# Altium footprint library 653103131822.PcbLib: 1 footprints
Each footprint in its own frame and in the unit in brackets; x right, y up, seen from the top. Pads: shape width x height; smd on the part's side, far side on the other; paste and mask are expansions set on the pad; w line width, h text height; cw(c..) or ccw(c..) is an arc to the next point about the centre after c.
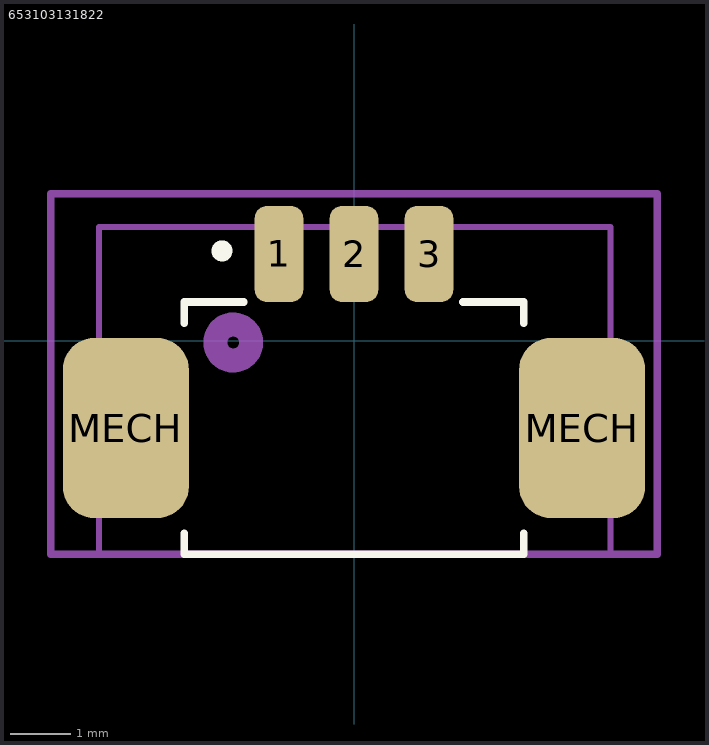
[diagram p0: the footprint, top view; thin cyan lines are the x and y axes]

## 653103131822 [mm] "SMT Male Horizontal Shrouded Header - 03p 1 row - T & R packaging"
height 3.4
pads (5):
  rrect50% 0.81x1.6 smd: 1(-1.25,1.45) 2(0,1.45) 3(1.25,1.45)
  rrect50% 2.1x3 smd: MECH(-3.8,-1.45) MECH(3.8,-1.45)
Top Overlay:
  circle w0.2: c-2.2,1.5 r0.075
  lines w0.127: -2.825,-3.2 -2.825,-3.55 2.825,-3.55 2.825,-3.2 ; -2.825,0.3 -2.825,0.65 -1.835,0.65 ; 1.815,0.65 2.035,0.65 ; 2.825,0.3 2.825,0.65 2.035,0.65 ; -1.835,0.65 -1.835,0.65 ; 2.035,0.65 2.035,0.65
Top Assembly:
  circle w0.4: c-2.012,-0.025 r0.3
  lines w0.1: -4.25,-3.55 4.275,-3.55 4.275,1.9 -4.25,1.9 -4.25,-3.55
  text "'.Designator'" at -2.938,-1.654 h0.5
Top Courtyard:
  lines w0.127: -5.05,-3.55 -5.05,2.45 5.05,2.45 5.05,-3.55 -5.05,-3.55
3D body "653103131822 (rev1).stp": height 3.42, standoff 0.01, extent -4.225,-3.575 4.275,1.835